# Altium footprint library PA4343.103ANLT.PcbLib: 1 footprints
Each footprint in its own frame and in the unit in brackets; x right, y up, seen from the top. Pads: shape width x height; smd on the part's side, far side on the other; paste and mask are expansions set on the pad; w line width, h text height; cw(c..) or ccw(c..) is an arc to the next point about the centre after c.
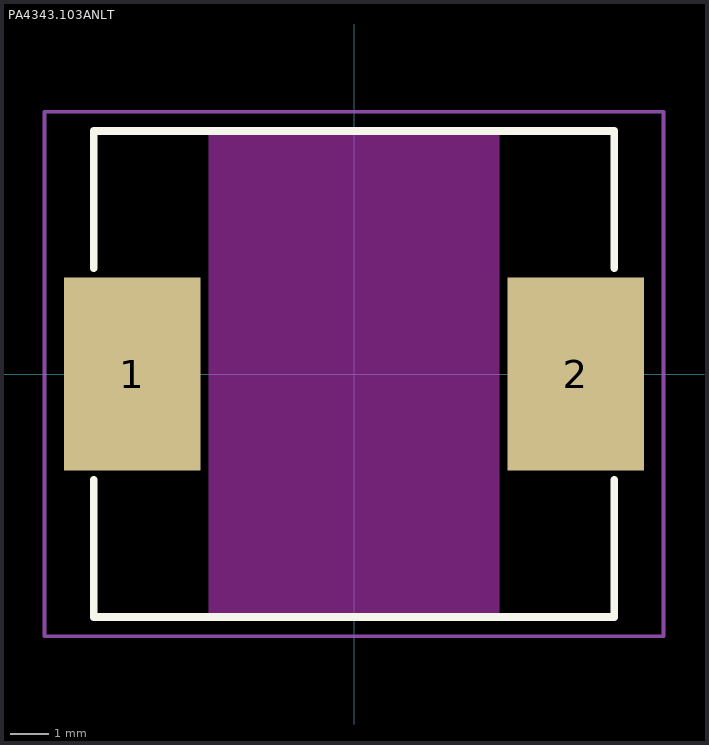
[diagram p0: the footprint, top view; thin cyan lines are the x and y axes]

## PA4343.103ANLT [mm]
pads (2):
  rect 3.55x5 smd: 1(-5.75,0) 2(5.75,0)
L1-Top Layer keep-out:
  rectangle: -3.775,-6.3 3.775,6.3
Top Overlay:
  lines w0.2: -6.75,-2.75 -6.75,-6.3 6.75,-6.3 6.75,-2.75 ; -6.75,2.75 -6.75,6.3 6.75,6.3 6.75,2.75
Top Courtyard:
  lines w0.1: -8.025,-6.8 -6.75,-6.8 8.025,-6.8 8.025,6.8 -8.025,6.8 -8.025,-6.8
3D body "PA4343.103ANLT.stp": height 6.5, standoff 0, extent -6.75,-6.3 6.75,6.3